# Altium schematic symbol library BMS_V2.1_Adv.SchLib: 129 symbols (part 3 of 3)
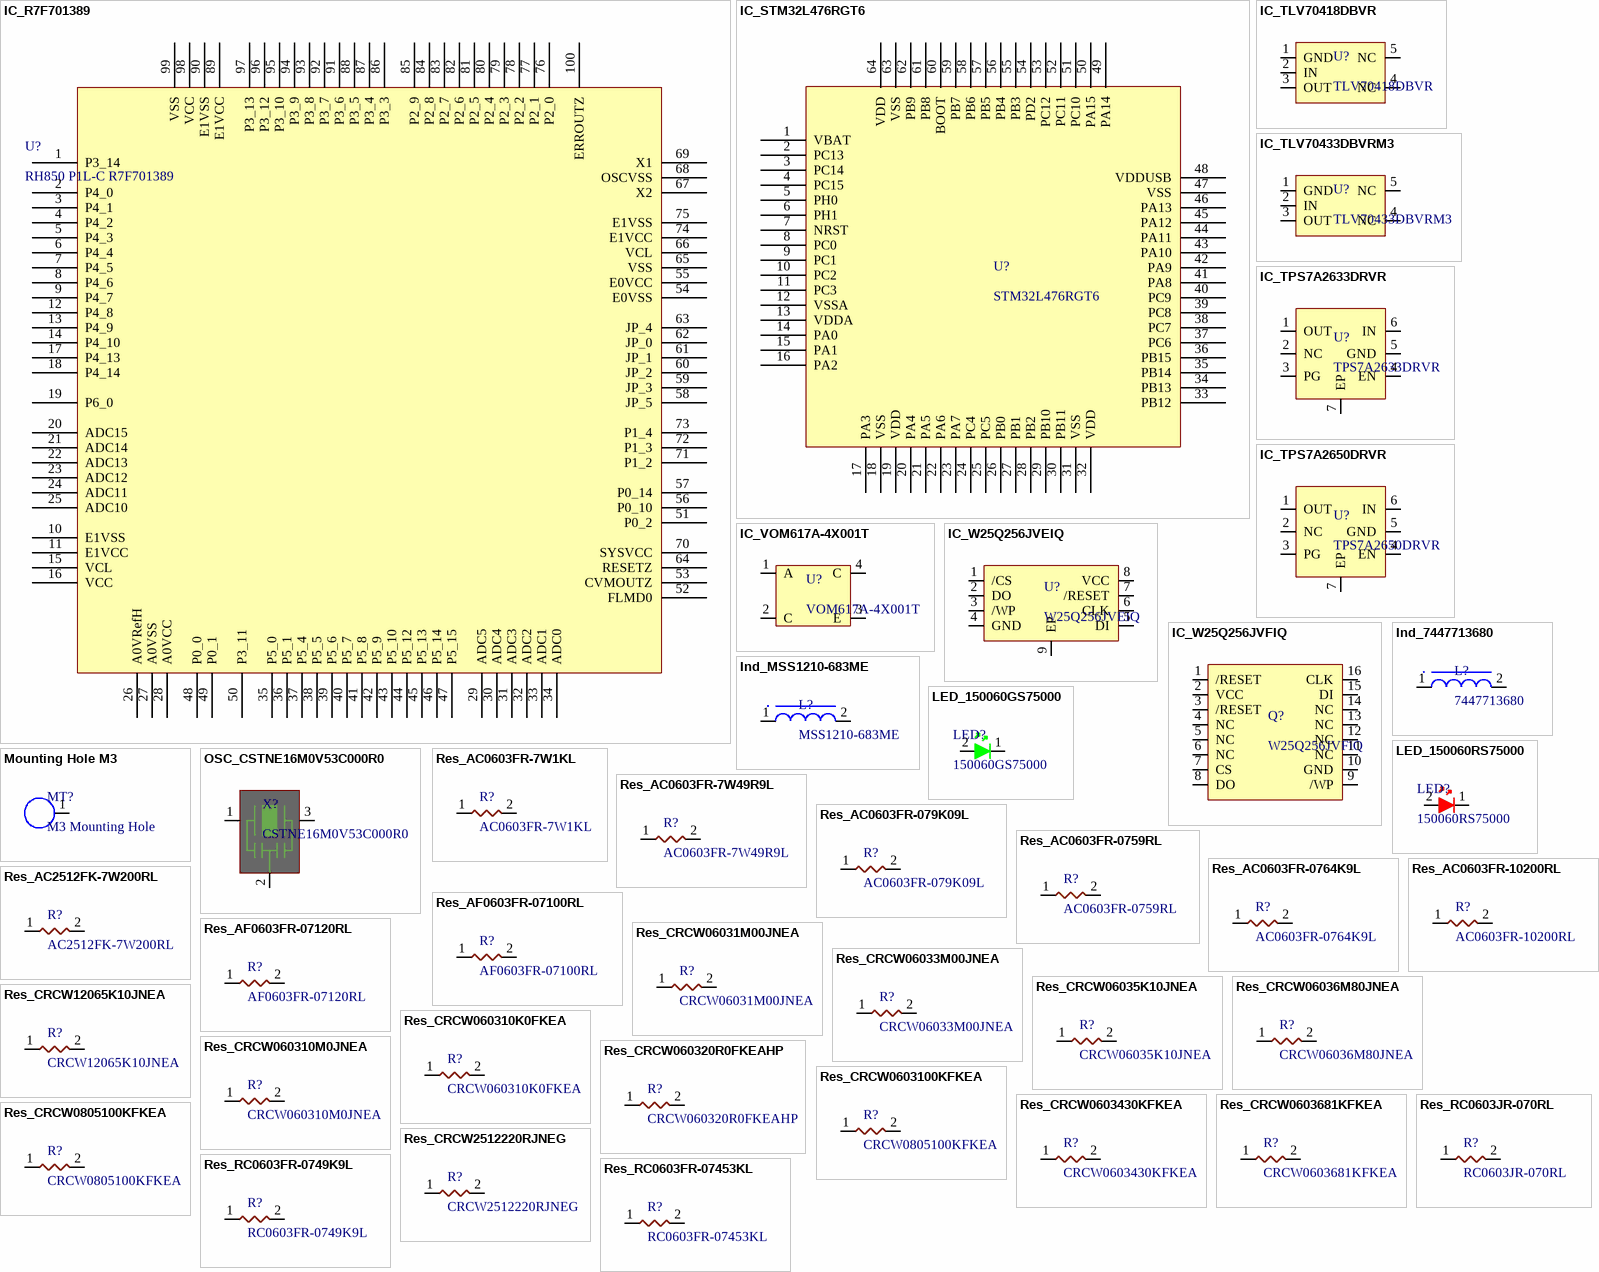
[diagram p6: symbols IC_R7F701389 to Res_RC0603JR-070RL]

## Res_CRCW06035K10JNEA
designator R?, comment CRCW06035K10JNEA
SMD Chip Resistor, 5.1k Ohm, ± 5%, 250 mW, 0603 [1608 Metric], Thick Film, General Purpose; Manufacturer: Vishay Dale; AEC-Q: 200; Max Temp: 155 degC; Min Temp: -55 degC; Power: 1/10W; Value: 5.1k R; Value Display: 5.1kE, 5%,0603; Manufacturer Part Number: CRCW06035K10JNEA; Category: Resistor; ComponentLink1Description: Datasheet; ComponentLink1URL: https://www.vishay.com/docs/20035/dcrcwe3.pdf; Mount Type: Surface Mount; Package: 0603; RoHS: Yes; Supplier 1: Digikey; Supplier 1 Part Number: 541-5.1KGCT-ND; Supplier 1 pricing per Unit: 8.34 INR; Supplier: Mouser; Supplier Part Number: 71-CRCW0603J-5.1K-E3; Supplier pricing per Unit: 8.34 INR; Tolerance: 5%; Value 1: CRCW06035K10JNEA
footprint RESC1608X05N 0603 (Chip Resistor, 2-Leads, Body 1.55x0.85mm, IPC Medium Density)
pins: 1, 2

## Res_CRCW06036M80JNEA
designator R?, comment CRCW06036M80JNEA
SMD Chip Resistor,6.8 MOhms ±5%, 1/10W, 0603 (1608 Metric) Anti-Sulfur, Automotive AEC-Q200 Thick Film; Manufacturer: Vishay Dale; AEC-Q: 200; Max Temp: 155 degC; Min Temp: -55 degC; Value: 6.8M R; Value Display: 6.8ME, 5%, 0603; Category: Resistor; ComponentLink1Description: Datasheet; ComponentLink1URL: https://www.vishay.com/docs/20035/dcrcwe3.pdf; Manufacturer Part Number: CRCW06036M80JNEA; Mount Type: Surface Mount; Package: 0603; Power: 1/10W; RoHS: Yes; Supplier 1: Digikey; Supplier 1 Part Number: 541-CRCW06036M80JNEACT-ND; Supplier 1 pricing per Unit: 8.34 INR; Supplier: Mouser; Supplier Part Number: 71-CRCW0603J-6.8M-E3; Supplier pricing per Unit: 8.34 INR; Tolerance: 5%; Value 1: CRCW06036M80JNEA
footprint RESC1608X05N 0603 (Chip Resistor, 2-Leads, Body 1.55x0.85mm, IPC Medium Density)
pins: 1, 2

## Res_CRCW12065K10JNEA
designator R?, comment CRCW12065K10JNEA
SMD Chip Resistor, 5.1k Ohm, ± 5%, 250 mW, 1206 [3216 Metric], Thick Film, General Purpose; Manufacturer: Vishay Dale; AEC-Q: 200; Max Temp: 155 degC; Min Temp: -55 degC; Power: 1/4W; Value: 5.1k R; Value Display: 5.1kE, 5%,1206; Manufacturer Part Number: CRCW12065K10JNEA; Category: Resistor; ComponentLink1Description: Datasheet; ComponentLink1URL: https://www.vishay.com/docs/20035/dcrcwe3.pdf; Mount Type: Surface Mount; Package: 1206; RoHS: Yes; Supplier 1: Digikey; Supplier 1 Part Number: 541-5.1KECT-ND; Supplier 1 pricing per Unit: 8.34 INR; Supplier: Mouser; Supplier Part Number: 71-CRCW1206J-5.1K-E3; Supplier pricing per Unit: 8.34 INR; Tolerance: 5%; Value 1: CRCW12065K10JNEA
footprint RESC3216X06N 1206 (Chip Resistor, 2-Leads, Body 3.15x1.60mm, IPC Medium Density)
pins: 1, 2

## Res_CRCW060310K0FKEA
designator R?, comment CRCW060310K0FKEA
SMD Chip Resistor, 10 kOhm,±1%, 100 mW, 0603 [1608 Metric], Thick Film, General Purpose; Manufacturer: Vishay Dale; AEC-Q: 200; Max Temp: 155 degC; Min Temp: -55 degC; Power: 1/10W; Value: 10k R; Value Display: 10kE, 1%, 0603; Category: Resistor; ComponentLink1Description: Datasheet; ComponentLink1URL: https://www.vishay.com/docs/20035/dcrcwe3.pdf; Manufacturer Part Number: CRCW060310K0FKEA; Mount Type: Surface Mount; Package: 0603; RoHS: Yes; Supplier 1: Digikey; Supplier 1 Part Number: 541-10.0KHCT-ND; Supplier 1 pricing per Unit: 8.34 INR; Supplier: Mouser; Supplier Part Number: 71-CRCW0603-10K-E3; Supplier pricing per Unit: 8.34 INR; Tolerance: 1%; Value 1: CRCW060310K0FKEA
footprint RESC1608X05N 0603 (Chip Resistor, 2-Leads, Body 1.55x0.85mm, IPC Medium Density)
pins: 1, 2

## Res_CRCW060310M0JNEA
designator R?, comment CRCW060310M0JNEA
SMD Chip Resistor, 10 MOhm,±5%, 100 mW, 0603 [1608 Metric], Thick Film, General Purpose; Manufacturer: Vishay Dale; AEC-Q: 200; Max Temp: 155 degC; Min Temp: -55 degC; Power: 1/10W; Value: 10M R; Value Display: 10ME, 5%, 0603; Category: Resistor; ComponentLink1Description: Datasheet; ComponentLink1URL: https://www.vishay.com/docs/20035/dcrcwe3.pdf; Manufacturer Part Number: CRCW060310M0JNEA; Mount Type: Surface Mount; Package: 0603; RoHS: Yes; Supplier 1: Digikey; Supplier 1 Part Number: 541-10MGCT-ND; Supplier 1 pricing per Unit: 8.34 INR; Supplier: Mouser; Supplier Part Number: 71-CRCW0603J-10M-E3; Supplier pricing per Unit: 8.34 INR; Tolerance: 5%; Value 1: CRCW060310M0JNEA
footprint RESC1608X05N 0603 (Chip Resistor, 2-Leads, Body 1.55x0.85mm, IPC Medium Density)
pins: 1, 2

## Res_CRCW060320R0FKEAHP
designator R?, comment CRCW060320R0FKEAHP
SMD Chip Resistor, 20 Ohm, ± 1%, 330 mW, 0603 [1608 Metric], Thick Film, General Purpose; Manufacturer: Vishay Dale; Value: 20R; Power: 1/10W; Value Display: 20E, 1%, 0603; AEC-Q: 200; Max Temp: 155 degC; Min Temp: -55 degC; Package: 0603; Manufacturer Part Number: CRCW060320R0FKEAHP; Tolerance: 1%; Category: Resistor; RoHS: Yes; Supplier: Mouser; Supplier 1 pricing per Unit: 12.51 INR; ComponentLink1Description: Datasheet; ComponentLink1URL: https://www.vishay.com/docs/20043/crcwhpe3.pdf; Supplier 1: Digikey; Value 1: CRCW060320R0FKEAHP; Supplier 1 Part Number: 541-20.0SCT-ND; Supplier Part Number: 71-CRCW060320R0FKEAH; Supplier pricing per Unit: 12.51 INR; Mount Type: Surface Mount
footprint RESC1608X05N 0603 (Chip Resistor, 2-Leads, Body 1.55x0.85mm, IPC Medium Density)
pins: 1, 2

## Res_CRCW0603100KFKEA
designator R?, comment CRCW0805100KFKEA
SMD Chip Resistor, 100k Ohm, ± 1%, 100 mW, 0603 [1608 Metric], Thick Film, General Purpose; Manufacturer: Vishay Dale; Manufacturer Part Number: CRCW0603100KFKEA; AEC-Q: 200; Max Temp: 155 degC; Min Temp: -55 degC; Power: 1/10W; Value: 100k R; Value Display: 100kE, 1%, 0603; Category: Resistor; ComponentLink1Description: Datasheet; ComponentLink1URL: https://www.vishay.com/docs/20035/dcrcwe3.pdf; Mount Type: Surface Mount; Package: 0603; RoHS: Yes; Supplier 1: Digikey; Supplier 1 Part Number: 541-100KCCT-ND; Supplier 1 pricing per Unit: 8.34 INR; Supplier: Mouser; Supplier Part Number: 71-CRCW0603-100K-E3; Supplier pricing per Unit: 8.34 INR; Tolerance: 1%; Value 1: CRCW0603100KFKEA
footprint RESC1608X05N 0603 (Chip Resistor, 2-Leads, Body 1.55x0.85mm, IPC Medium Density)
pins: 1, 2

## Res_CRCW0603430KFKEA
designator R?, comment CRCW0603430KFKEA
SMD Chip Resistor, 430k Ohm, ± 1%, 100 mW, 0603 [1608 Metric], Thick Film, General Purpose; Manufacturer: Vishay Dale; AEC-Q: 200; Max Temp: 155 degC; Min Temp: -55 degC; Power: 1/10W; Value: 430k R; Value Display: 430kE, 1%, 0603; Category: Resistor; ComponentLink1Description: Datasheet; ComponentLink1URL: https://www.vishay.com/docs/20035/dcrcwe3.pdf; Manufacturer Part Number: CRCW0603430KFKEA; Mount Type: Surface Mount; Package: 0603; RoHS: Yes; Supplier 1: Digikey; Supplier 1 Part Number: 541-430KHCT-ND; Supplier 1 pricing per Unit: 8.34 INR; Supplier: Mouser; Supplier Part Number: 71-CRCW0603-430K-E3; Supplier pricing per Unit: 8.34 INR; Tolerance: 1%; Value 1: CRCW0603430KFKEA
footprint RESC1608X05N 0603 (Chip Resistor, 2-Leads, Body 1.55x0.85mm, IPC Medium Density)
pins: 1, 2

## Res_CRCW0603681KFKEA
designator R?, comment CRCW0603681KFKEA
SMD Chip Resistor, 681k Ohm, ± 1%, 100 mW, 0603 [1608 Metric], Thick Film, General Purpose; Manufacturer: Vishay Dale; Value: 681k R; AEC-Q: NA; Max Temp: 155 degC; Min Temp: -55 degC; Power: 1/10W; Value Display: 681kE, 1%, 0603; Manufacturer Part Number: CRCW0603681KFKEA; Category: Resistor; ComponentLink1Description: Datasheet; ComponentLink1URL: https://www.vishay.com/docs/20035/dcrcwe3.pdf; Mount Type: Surface Mount; Package: 0603; RoHS: Yes; Supplier 1: Digikey; Supplier 1 Part Number: 541-681KHCT-ND; Supplier 1 pricing per Unit: 8.34 INR; Supplier: Mouser; Supplier Part Number: 71-CRCW0603-681K-E3; Supplier pricing per Unit: 8.34 INR; Tolerance: 1%; Value 1: CRCW0603681KFKEA
footprint RESC1608X05N 0603 (Chip Resistor, 2-Leads, Body 1.55x0.85mm, IPC Medium Density)
pins: 1, 2

## Res_CRCW0805100KFKEA
designator R?, comment CRCW0805100KFKEA
SMD Chip Resistor, 100k Ohm, ± 1%, 125 mW, 0805 [2012 Metric], Thick Film, General Purpose; Manufacturer: Vishay Dale; AEC-Q: 200; Max Temp: 155 degC; Min Temp: -55 degC; Power: 1/8W; Value: 100k R; Value Display: 100kE, 1%, 0805; Manufacturer Part Number: CRCW0805100KFKEA; Category: Resistor; ComponentLink1Description: Datasheet; ComponentLink1URL: https://www.vishay.com/docs/20035/dcrcwe3.pdf; Mount Type: Surface Mount; Package: 0805; RoHS: Yes; Supplier 1: Digikey; Supplier 1 Part Number: 541-100KCCT-ND; Supplier 1 pricing per Unit: 8.34 INR; Supplier: Mouser; Supplier Part Number: 71-CRCW0805-100K-E3; Supplier pricing per Unit: 8.34 INR; Tolerance: 1%; Value 1: CRCW0805100KFKEA
footprint RESC2112X06N 0805 (Chip Resistor, 2-Leads, Body 2.08x1.25mm, IPC Medium Density)
pins: 1, 2

## Res_CRCW2512220RJNEG
designator R?, comment CRCW2512220RJNEG
SMD Chip Resistor, 220 Ohm, ± 1%, 1 W, 2512 [6432 Metric], Thick Film, General Purpose; Manufacturer: Vishay Dale; Value: 220R; Tolerance: 5%; Power: 1W; AEC-Q: 200; Max Temp: 155 degC; Min Temp: -55 degC; Value Display: 220E, 5%,2512; Package: 2512; RoHS: Yes; Manufacturer Part Number: CRCW2512220RJNEG; Supplier: Mouser; Supplier 1: Digikey; Category: Resistor; ComponentLink1Description: Datasheet; ComponentLink1URL: https://www.vishay.com/docs/20035/dcrcwe3.pdf; Mount Type: Surface Mount; Supplier 1 Part Number: 541-220XCT-ND; Supplier 1 pricing per Unit: 26.68 INR; Supplier Part Number: 71-CRCW2512J-220-E3; Supplier pricing per Unit: 26.68 INR; Value 1: CRCW2512220RJNEG
footprint RESC6332X07N 2512 (Chip Resistor, 2-Leads, Body 6.30x3.15mm, IPC Medium Density)
pins: 1, 2

## Res_RC0603FR-0749K9L
designator R?, comment RC0603FR-0749K9L
SMD Chip Resistor, 49.9k Ohm, ± 1%, 100 mW, 0603 [1608 Metric], Thick Film, General Purpose; Manufacturer: Yageo; AEC-Q: NA; Max Temp: 155 degC; Min Temp: -55 degC; Power: 1/10W; Value: 49.9K R; Value Display: 49.9kE, 1%, 0603; Manufacturer Part Number: RC0603FR-0749K9L; Category: Resistor; ComponentLink1Description: Datasheet; ComponentLink1URL: https://www.yageo.com/upload/media/product/products/datasheet/rchip/PYu-RC_Group_51_RoHS_L_12.pdf; Mount Type: Surface Mount; Package: 0603; RoHS: Yes; Supplier 1: Digikey; Supplier 1 Part Number: 311-49.9KHRCT-ND; Supplier 1 pricing per Unit: 8.34 INR; Supplier: Mouser; Supplier Part Number: 603-RC0603FR-0749K9L; Supplier pricing per Unit: 8.34 INR; Tolerance: 1%; Value 1: RC0603FR-0749K9L
footprint RESC1608X05N 0603 (Chip Resistor, 2-Leads, Body 1.55x0.85mm, IPC Medium Density)
pins: 1, 2

## Res_RC0603FR-07453KL
designator R?, comment RC0603FR-07453KL
SMD Chip Resistor, 453k Ohm, ± 1%, 100 mW, 0603 [1608 Metric], Thick Film, General Purpose; Manufacturer: Yageo; AEC-Q: NA; Max Temp: 155 degC; Min Temp: -55 degC; Power: 1/10W; Value: 453k R; Value Display: 453kE, 1%, 0603; Manufacturer Part Number: RC0603FR-07453KL; Category: Resistor; ComponentLink1Description: Datasheet; ComponentLink1URL: https://www.yageo.com/upload/media/product/products/datasheet/rchip/PYu-RC_Group_51_RoHS_L_12.pdf; Mount Type: Surface Mount; Package: 0603; RoHS: Yes; Supplier 1: Digikey; Supplier 1 Part Number: 311-453KHRCT-ND; Supplier 1 pricing per Unit: 8.34 INR; Supplier: Mouser; Supplier Part Number: 603-RC0603FR-07453KL; Supplier pricing per Unit: 8.34 INR; Tolerance: 1%; Value 1: RC0603FR-07453KL
footprint RESC1608X05N 0603 (Chip Resistor, 2-Leads, Body 1.55x0.85mm, IPC Medium Density)
pins: 1, 2

## Res_RC0603JR-070RL
designator R?, comment RC0603JR-070RL
SMD Chip Resistor, 0 Ohm,Jumper Resistor, 100 mW, 0603 [1608 Metric], Thick Film, General Purpose; Manufacturer: Yageo; Value: 0R; AEC-Q: NA; Max Temp: 155 degC; Min Temp: -55 degC; Power: 1/10W; Value Display: 0E, 0603; Manufacturer Part Number: RC0603JR-070RL; Tolerance: *; Supplier: Mouser; RoHS: Yes; Category: Resistor; ComponentLink1Description: Datasheet; ComponentLink1URL: https://www.yageo.com/upload/media/product/products/datasheet/rchip/PYu-RC_Group_51_RoHS_L_12.pdf; Mount Type: Surface Mount; Package: 0603; Supplier 1: Digikey; Supplier 1 Part Number: 311-0.0GRCT-ND; Supplier 1 pricing per Unit: 8.34 INR; Supplier Part Number: 603-RC0603JR-070RL; Supplier pricing per Unit: 8.34 INR; Value 1: RC0603JR-070RL
footprint RESC1608X05N 0603 (Chip Resistor, 2-Leads, Body 1.55x0.85mm, IPC Medium Density)
pins: 1, 2

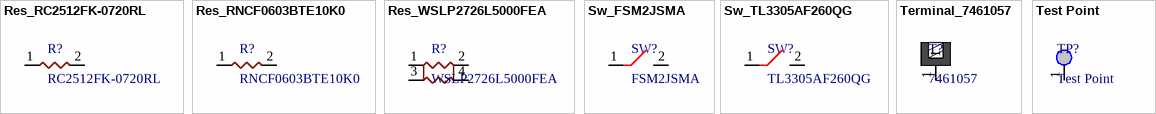
[diagram p4: symbols Res_RC2512FK-0720RL to Test Point]

## Res_RC2512FK-0720RL
designator R?, comment RC2512FK-0720RL
SMD Chip Resistor, 20 Ohm Resistor, 1 W, 2512 [6432 Metric], Thick Film, General Purpose; Manufacturer: Yageo; AEC-Q: NA; Max Temp: 155 degC; Min Temp: -55 degC; Power: 1W; Tolerance: 1%; Value: 20R; Value Display: 20E, 1%, 2512; Category: Resistor; ComponentLink1Description: Datasheet; ComponentLink1URL: https://www.yageo.com/upload/media/product/products/datasheet/rchip/PYu-RC_Group_51_RoHS_L_12.pdf; Manufacturer Part Number: RC2512FK-0720RL; Mount Type: Surface Mount; Package: 2512; RoHS: Yes; Supplier 1: Digikey; Supplier 1 Part Number: 13-RC2512FK-0720RLCT-ND; Supplier 1 pricing per Unit: 27.67 INR; Supplier: Mouser; Supplier Part Number: 603-RC2512FK-0720RL; Supplier pricing per Unit: 26.69 INR; Value 1: RC2512FK-0720RL
footprint RESC6332X07N 2512 (Chip Resistor, 2-Leads, Body 6.30x3.15mm, IPC Medium Density)
pins: 1, 2

## Res_RNCF0603BTE10K0
designator R?, comment RNCF0603BTE10K0
SMD Chip Resistor, 10 kOhm, 100 mW, 0603 [1608 Metric], Thick Film, General Purpose, High Precision; Manufacturer: Stackpole Electronics; Value: 10k R; Tolerance: 0.1%; AEC-Q: 200; Max Temp: 155 degC; Min Temp: -55 degC; Power: 1/6W; Value Display: 10kE, 0.1%, 0603; Manufacturer Part Number: RNCF0603BTE10K0; Package: 0603; Category: Resistor; ComponentLink1Description: Datasheet; ComponentLink1URL: https://www.seielect.com/catalog/sei-rncf.pdf; Mount Type: Surface Mount; RoHS: Yes; Supplier 1: Digikey; Supplier 1 Part Number: RNCF0603BTE10K0CT-ND; Supplier 1 pricing per Unit: 13.34 INR; Supplier: Mouser; Supplier Part Number: 708-RNCF0603BTE10K0; Supplier pricing per Unit: 12.51 INR; Value 1: RNCF0603BTE10K0
footprint RESC1608X05N 0603 (Chip Resistor, 2-Leads, Body 1.55x0.85mm, IPC Medium Density)
pins: 1, 2

## Res_WSLP2726L5000FEA
designator R?, comment WSLP2726L5000FEA
0.5 mOhms ±1% 7W Chip Resistor Nonstandard Anti-Sulfur, Automotive AEC-Q200, Current Sense, Moisture Resistant, Pulse Withstanding Metal Element; Manufacturer: Vishay Dale; AEC-Q: 200; Max Temp: 175 degC; Min Temp: -60 degC; Value: 0.5m R; Value Display: 0.5mE, 1%; Category: Shunt Resistor; ComponentLink1Description: Datasheet; ComponentLink1URL: https://www.vishay.com/docs/30179/wslp2726.pdf; Manufacturer Part Number: WSLP2726L5000FEA; Mount Type: Surface Mount; Package: NS; Power: 7W; RoHS: Yes; Supplier 1: Digikey; Supplier 1 Part Number: 541-4377-1-ND; Supplier 1 pricing per Unit: 237.03 INR; Supplier: Mouser; Supplier Part Number: 71-WSLP2726L5000FEA; Supplier pricing per Unit: 202.66 INR; Tolerance: 1%; Value 1: WSLP2726L5000FEA
footprint WSLP2726-X- NS (Chip Resistor, Non Standard)
pins: 1, 2, 3, 4

## Sw_FSM2JSMA
designator SW?, comment FSM2JSMA
Tactile Switch SPST-NO Top Actuated Surface Mount; Manufacturer: TE Connectivity; Value: FSM2JSMAATR; Manufacturer Part Number: FSM2JSMAATR; Category: Switch; ComponentLink1Description: Datasheet; ComponentLink1URL: https://www.te.com/commerce/DocumentDelivery/DDEController?Action=srchrtrv&DocNm=1308111-1_SWITCHES_CORE_PROGRAM_CATALOG&DocType=CS&DocLang=English; Mount Type: Surface Mount; Package: SMT; RoHS: Yes; Supplier 1: Digikey; Supplier 1 Part Number: 450-1792-1-ND; Supplier 1 pricing per Unit: 18.41 INR; Supplier: Mouser; Supplier Part Number: 506-FSM2JSMAATR; Supplier pricing per Unit: 18.35 INR; Value 1: FSM2JSMAATR; Value Display: FSM2JSMAATR
footprint SW_FSM2JSMAATR (FSM2JSMAATR)
pins: 1, 2

## Sw_TL3305AF260QG
designator SW?, comment TL3305AF260QG
SWITCH TACTILE SPST-NO 0.05A 12V; Manufacturer: E Switch; Category: Switch; ComponentLink1Description: Datasheet; ComponentLink1URL: https://configured-product-images.s3.amazonaws.com/Datasheets/TL3305.pdf; Manufacturer Part Number: TL3305AF260QG; Mount Type: Surface Mount; Package: SMT; RoHS: Yes; Supplier 1: Digikey; Supplier 1 Part Number: EG5353CT-ND; Supplier 1 pricing per Unit: 17.61 INR; Supplier: Mouser; Supplier Part Number: 612-TL3305AF260QG; Supplier pricing per Unit: 17.51 INR; Value 1: TL3305AF260QG; Value: TL3305AF260QG; Value Display: TL3305AF260QG
footprint SW_TL3305AF260QG (TL3305AF260QG)
pins: 1, 2

## Terminal_7461057
designator T?, comment 7461057
6 Pin Screw Terminal, Power Tap M3 Through Hole; Manufacturer: Wurth Electronik; Value: 100 A; Value Display: M3 Screw Terminal; Category: Terminal; ComponentLink1Description: Datasheet; ComponentLink1URL: https://www.we-online.com/components/products/datasheet/7461057.pdf; Manufacturer Part Number: 7461057; Mount Type: TH; Package: TH; RoHS: Yes; Supplier 1: Digikey; Supplier 1 Part Number: 732-3200-ND; Supplier 1 pricing per Unit: 213.66 INR; Supplier: Mouser; Supplier Part Number: 710-7461057; Supplier pricing per Unit: 213.30 INR; Value 1: 7461057
footprint 7461057 (7461057 Screw Terminal)
pins: 1

## Test Point
designator TP?  (no BOM)
Test Point NO BOM
footprint Testpoint
pins: 1 TP